# EAGLE library part NVT2008 (library NXP)
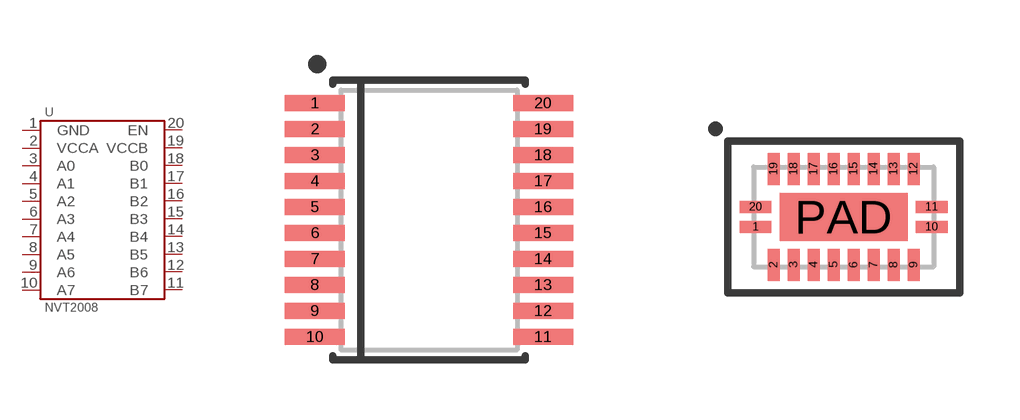
[diagram p9: symbol with the pads of TSSOP-20; footprints TSSOP-20, VFQFN-20]

Designator prefix U

## NVT2008PW,118  [TSSOP-20]
1  GND
2  VCCA
3  A0
4  A1
5  A2
6  A3
7  A4
8  A5
9  A6
10  A7
11  B7
12  B6
13  B5
14  B4
15  B3
16  B2
17  B1
18  B0
19  VCCB
20  EN

## NVT2008BQ,115  [VFQFN-20]
1  GND
2  VCCA
3  A0
4  A1
5  A2
6  A3
7  A4
8  A5
9  A6
10  A7
11  B7
12  B6
13  B5
14  B4
15  B3
16  B2
17  B1
18  B0
19  VCCB
20  EN
PAD  GND

## Footprint TSSOP-20 (pad centres in mm)
smd 1.5 x 0.4: 1 -2.85,2.925; 2 -2.85,2.275; 3 -2.85,1.625; 4 -2.85,0.975; 5 -2.85,0.325; 6 -2.85,-0.325; 7 -2.85,-0.975; 8 -2.85,-1.625; 9 -2.85,-2.275; 10 -2.85,-2.925; 11 2.85,-2.925; 12 2.85,-2.275; 13 2.85,-1.625; 14 2.85,-0.975; 15 2.85,-0.325; 16 2.85,0.325; 17 2.85,0.975; 18 2.85,1.625; 19 2.85,2.275; 20 2.85,2.925

## Footprint VFQFN-20 (pad centres in mm)
smd 0.8 x 0.3: 1 -2.2,-0.25; 10 2.2,-0.25; 11 2.2,0.25; 20 -2.2,0.25
smd 0.3 x 0.8: 2 -1.75,-1.2; 3 -1.25,-1.2; 4 -0.75,-1.2; 5 -0.25,-1.2; 6 0.25,-1.2; 7 0.75,-1.2; 8 1.25,-1.2; 9 1.75,-1.2; 12 1.75,1.2; 13 1.25,1.2; 14 0.75,1.2; 15 0.25,1.2; 16 -0.25,1.2; 17 -0.75,1.2; 18 -1.25,1.2; 19 -1.75,1.2
smd 3.2 x 1.2: PAD 0,0